# EAGLE library part STL6N3LLH6 (library STL6N3LLH6)
STMicroelectronics STL6N3LLH6 N-channel MOSFET Transistor, 6 A, 30 V, 6-Pin PowerFLAT Source: Datasheet <https://www.st.com/resource/en/datasheet/stl6n3llh6.pdf>
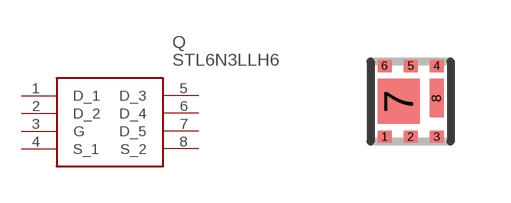
[diagram p0: symbol with the pads of POWERFLAT-2X2; footprint POWERFLAT-2X2]

Designator prefix Q

## STL6N3LLH6 (Description: STMicroelectronics STL6N3LLH6 N-channel MOSFET Transistor, 6 A, 30 V, 6-Pin PowerFLAT; Height: mm; Manufacturer_Name: STMicroelectronics; Manufacturer_Part_Number: STL6N3LLH6; Mouser_Part_Number: 511-STL6N3LLH6; Mouser_Price-Stock: https://www.mouser.co.uk/ProductDetail/STMicroelectronics/STL6N3LLH6?qs=symtzNQNgQLOqUYDqyK2eQ%3D%3D)  [POWERFLAT-2X2]
1  D_1
2  D_2
3  G
4  S_1
5  D_3
6  D_4
7  D_5
8  S_2

## Footprint POWERFLAT-2X2 (pad centres in mm)
PowerFLAT™ 2x2
smd 0.35 x 0.3: 1 -0.65,-0.887; 2 0,-0.887; 3 0.65,-0.887; 4 0.65,0.887; 5 0,0.887; 6 -0.65,0.887
smd 1.05 x 1.125: 7 -0.3,0
smd 0.35 x 0.95: 8 0.65,0.087